# EAGLE library part CCG30-24-12D (library CCG30-24-12D)
DC-DC Converters, On-board type, Dual Output, Output: 30W, ?12V, Isolated type Source: Datasheet <https://product.tdk.com/system/files/dam/doc/product/power/switching-power/dc-dc-converter/catalog/ccg_e.pdf>
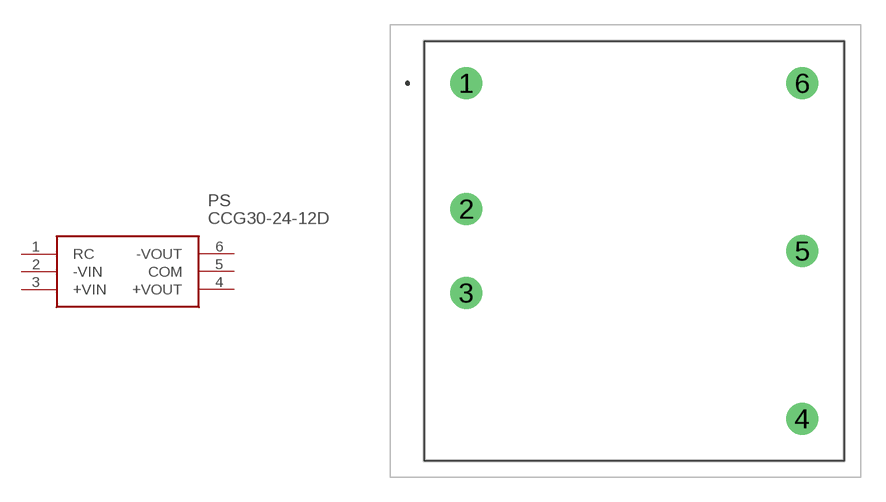
[diagram p0: symbol with the pads of CCG304815S; footprint CCG304815S]

Designator prefix PS

## CCG30-24-12D (Description: DC-DC Converters, On-board type, Dual Output, Output: 30W, ?12V, Isolated type; Height: 9.9mm; Manufacturer_Name: TDK; Manufacturer_Part_Number: CCG30-24-12D; Mouser_Part_Number: N/A; Mouser_Price-Stock: https://www.mouser.com/Search/Refine.aspx?Keyword=N%2FA)  [CCG304815S]
1  RC
2  -VIN
3  +VIN
4  +VOUT
5  COM
6  -VOUT

## Footprint CCG304815S (pad centres in mm)
CCG30-48-15S-1
drill 1.3 pad 1.95: 1 0,0; 2 0,-7.62; 3 0,-12.7; 4 20.32,-20.32; 5 20.32,-10.16; 6 20.32,0